# Altium footprint library EG2208A.PcbLib: 1 footprints
Each footprint in its own frame and in the unit in brackets; x right, y up, seen from the top. Pads: shape width x height; smd on the part's side, far side on the other; paste and mask are expansions set on the pad; w line width, h text height; cw(c..) or ccw(c..) is an arc to the next point about the centre after c.
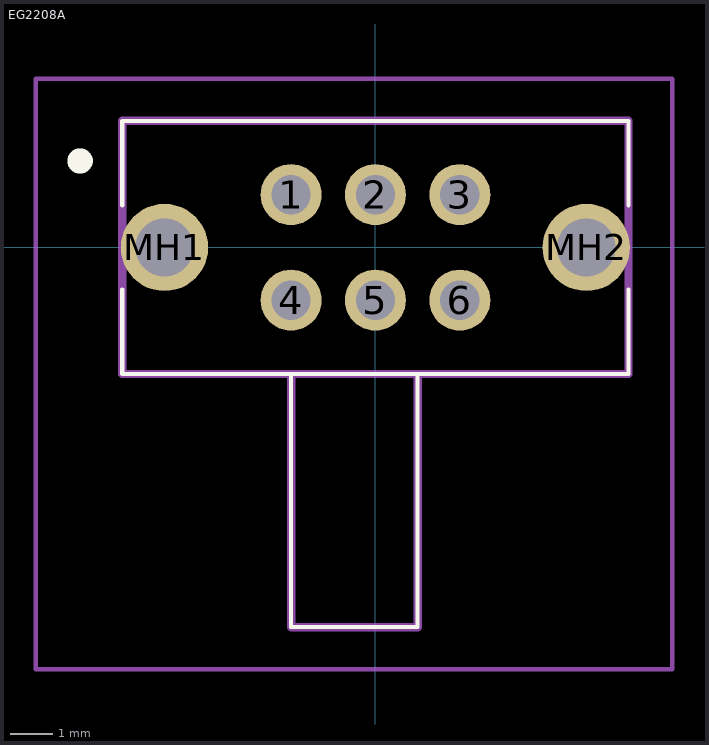
[diagram p0: the footprint, top view; thin cyan lines are the x and y axes]

## EG2208A [mm]
pads (8):
  round 1.447 hole 0.93: 1(-2,1.25) 2(0,1.25) 3(2,1.25) 4(-2,-1.25) 5(0,-1.25) 6(2,-1.25)
  round 2.07 hole 1.38: MH1(-5,0) MH2(5,0)
Top Overlay:
  lines w0.1: -6,-1 -6,-3 6,-3 6,-1 ; -6,1 -6,3 6,3 6,1 ; -2,-3 -2,-9 1,-9 1,-3
  lines w0.5: -7,2 cw(c-7,2.05) -7,2.1 cw(c-7,2.05) -7,2
Mechanical 13:
  lines w0.1: -8.05,-10 -8.05,4 7.035,4 7.035,-10 -8.05,-10
  lines w0.2: -2,-3 -2,-9 1,-9 1,-3 ; -6,-3 -6,3 6,3 6,-3 -6,-3
3D body "step_temp.STEP": height -3.12, standoff -13.42, extent 8.364,-9.134 20.364,-1.134